# EAGLE library part TU35-D400_NO_OUTLINE (library Jupiter_12_TU35-D400)
Navman Jupiter 12 GPS Receiver TU35-D410 and TU35-D420 Series Without module outline or mounting holes.
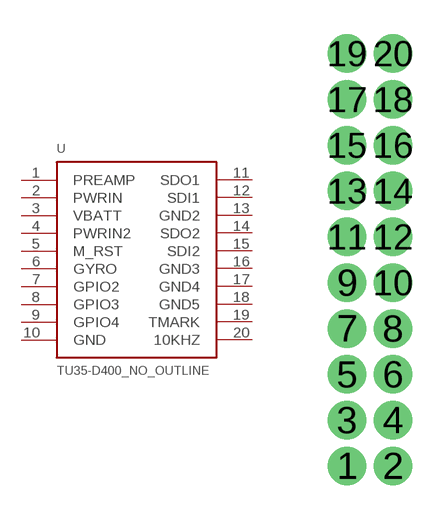
[diagram p1: symbol with the pads of TU35-D400_NO_OUTLINE; footprint TU35-D400_NO_OUTLINE]

Designator prefix -

## TU35-D400_NO_OUTLINE  [TU35-D400_NO_OUTLINE]
1  PREAMP
2  PWRIN
3  VBATT
4  PWRIN2
5  M_RST
6  GYRO
7  GPIO2
8  GPIO3
9  GPIO4
10  GND
11  SDO1
12  SDI1
13  GND2
14  SDO2
15  SDI2
16  GND3
17  GND4
18  GND5
19  TMARK
20  10KHZ

## Footprint TU35-D400_NO_OUTLINE (pad centres in mm)
drill 1.016 pad 1.676: 1 -1.81,-9.95; 2 0.19,-9.95; 3 -1.81,-7.95; 4 0.19,-7.95; 5 -1.81,-5.95; 6 0.19,-5.95; 7 -1.81,-3.95; 8 0.19,-3.95; 9 -1.81,-1.95; 10 0.19,-1.95; 11 -1.81,0.05; 12 0.19,0.05; 13 -1.81,2.05; 14 0.19,2.05; 15 -1.81,4.05; 16 0.19,4.05; 17 -1.81,6.05; 18 0.19,6.05; 19 -1.81,8.05; 20 0.19,8.05